# Altium schematic symbol library px4_SCHLIB.SchLib: 46 symbols
Pins are listed as number, name and electrical type; pins without a type are passive.

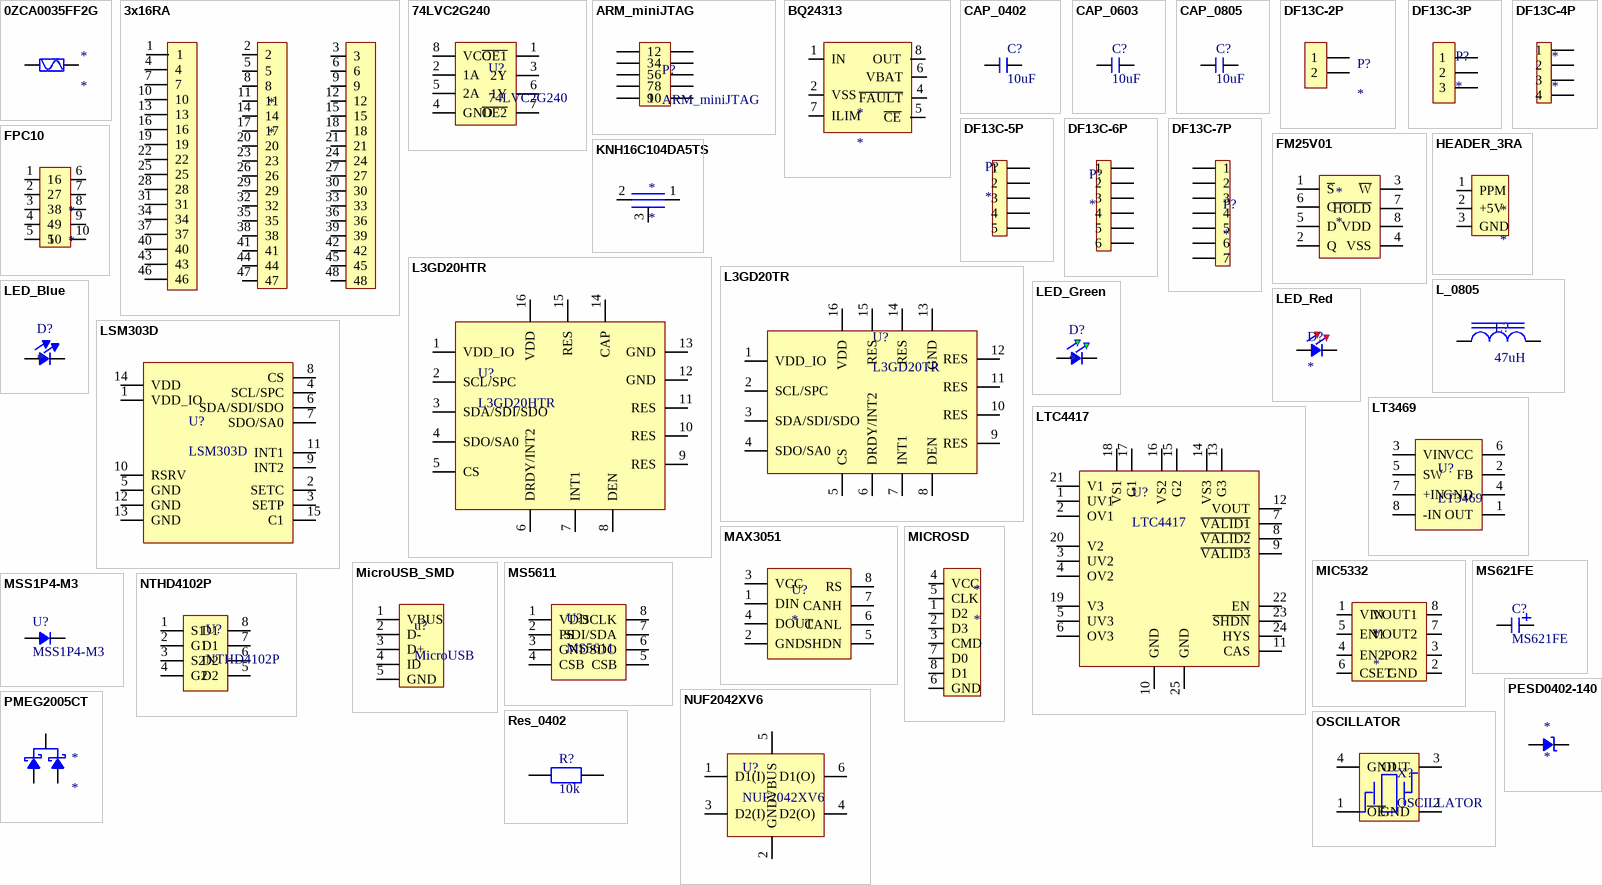
[diagram p0: symbols 0ZCA0035FF2G to Res_0402]

## 0ZCA0035FF2G
designator *
footprint PTC-1206
pins: 4, 5

## 3x16RA
designator *
footprint 3x16RA (脚间距2.54mm)
pins: 1, 2, 3, 4, 5, 6, 7, 8, 9, 10, 11, 12, 13, 14, 15, 16, 17, 18, 19, 20, 21, 22, 23, 24, 25, 26, 27, 28, 29, 30, 31, 32, 33, 34, 35, 36, 37, 38, 39, 40, 41, 42, 43, 44, 45, 46, 47, 48

## 74LVC2G240
designator U?
footprint TSSOP-8 (3.00×4.00×1.00 e=0.65mm（蒜米工坊）)
pins: 1 ~{OE1}, 2 1A, 3 2Y, 4 GND, 5 2A, 6 1Y, 7 ~{OE2}, 8 VCC

## ARM_miniJTAG
designator P?
footprint FTSH-105-01-XXX-DV-K
pins: 1, 2, 3, 4, 5, 6, 7, 8, 9, 10

## BQ24313
designator *
footprint QFN8 (2x2mm)
pins: 1 IN, 2 VSS, 4 ~{FAULT}, 5 ~{CE}, 6 VBAT, 7 ILIM, 8 OUT

## CAP_0402
designator C?, comment 10uF
footprint C 0402 (无极性贴片电容)
pins: 1, 2

## CAP_0603
designator C?, comment 10uF
footprint C 0603_L (无极性贴片电容)
pins: 1, 2

## CAP_0805
designator C?, comment 10uF
footprint C 0805_L (无极性贴片电容)
pins: 1, 2

## DF13C-2P
designator P?
footprint MX 1.25-LS-2P (长：7.25m，宽：3.7mm，高：4.7mm)
pins: 1, 2

## DF13C-3P
designator P?
footprint MX 1.25-LS-3P (长：8.5m，宽：3.7mm，高：4.7mm)
pins: 1, 2, 3

## DF13C-4P
designator *
footprint MX 1.25-LS-4P (长：9.75m，宽：3.7mm，高：4.7mm)
pins: 1, 2, 3, 4

## DF13C-5P
designator P?
footprint MX 1.25-LS-5P (长：11m，宽：3.7mm，高：4.7mm)
pins: 1, 2, 3, 4, 5

## DF13C-6P
designator P?
footprint MX 1.25-LS-6P (长：12.25m，宽：3.7mm，高：4.7mm)
pins: 1, 2, 3, 4, 5, 6

## DF13C-7P
designator P?
footprint MX 1.25-LS-7P (长：13.5m，宽：3.7mm，高：4.7mm)
pins: 1, 2, 3, 4, 5, 6, 7

## FM25V01
designator *
footprint SOIC8
pins: 1 ~{S}, 2 Q, 3 ~{W}, 4 VSS, 5 D, 6 C, 7 ~{HOLD}, 8 VDD

## FPC10
designator *
footprint FPC0.5 2H-WS-10P (长：9.2mm，宽：5.2mm，高：2mm)
pins: 1, 2, 3, 4, 5, 6, 7, 8, 9, 10

## HEADER_3RA
designator *
pins: 1 PPM, 2 +5V, 3 GND

## KNH16C104DA5TS
designator *
footprint KYOCERA-KNH16-DA
pins: 1, 2, 3

## L3GD20HTR
designator U?
footprint LGA_16L (3x3x1.0mm)
pins: 1 VDD_IO, 2 SCL/SPC, 3 SDA/SDI/SDO, 4 SDO/SA0, 5 CS, 6 DRDY/INT2, 7 INT1, 8 DEN, 9 RES, 10 RES, 11 RES, 12 GND, 13 GND, 14 CAP, 15 RES, 16 VDD

## L3GD20TR
designator U?
footprint LGA-16 (4x4x1mm)
pins: 1 VDD_IO, 2 SCL/SPC, 3 SDA/SDI/SDO, 4 SDO/SA0, 5 CS, 6 DRDY/INT2, 7 INT1, 8 DEN, 9 RES, 10 RES, 11 RES, 12 RES, 13 GND, 14 RES, 15 RES, 16 VDD

## L_0805
designator L?, comment 47uH
footprint L 0805 (小功率贴片电感)
pins: 1, 2

## LED_Blue
designator D?
footprint LED 0603B (蓝色0603LED)
pins: 3, 4

## LED_Green
designator D?
footprint LED 0603G (绿色0603LED)
pins: 3, 4

## LED_Red
designator D?
footprint LED 0603R (红色0603LED)
pins: 3, 4

## LSM303D
designator U?
footprint LGA_16L (3x3x1.0mm)
pins: 1 VDD_IO, 2 SETC, 3 SETP, 4 SCL/SPC, 5 GND, 6 SDA/SDI/SDO, 7 SDO/SA0, 8 CS, 9 INT2, 10 RSRV, 11 INT1, 12 GND, 13 GND, 14 VDD, 15 C1

## LT3469
designator U?
footprint SOT23-8
pins: 1 OUT, 2 FB, 3 VIN, 4 GND, 5 SW, 6 VCC, 7 +IN, 8 -IN

## LTC4417
designator U?
footprint MO-220
pins: 1 UV1, 2 OV1, 3 UV2, 4 OV2, 5 UV3, 6 OV3, 7 ~{VALID1}, 8 ~{VALID2}, 9 ~{VALID3}, 10 GND, 11 CAS, 12 VOUT, 13 G3, 14 VS3, 15 G2, 16 VS2, 17 G1, 18 VS1, 19 V3, 20 V2, 21 V1, 22 EN, 23 ~{SHDN}, 24 HYS, 25 GND

## MAX3051
designator U?
MAX3051
footprint SOT23-8
pins: 1 DIN, 2 GND, 3 VCC, 4 DOUT, 5 SHDN, 6 CANL, 7 CANH, 8 RS

## MIC5332
designator *
footprint QFN8 (2x2mm)
pins: 1 VIN, 2 GND, 3 POR2, 4 EN2, 5 EN1, 6 CSET, 7 VOUT2, 8 VOUT1

## MICROSD
designator *
footprint microSD
pins: 1 D2, 2 D3, 3 CMD, 4 VCC, 5 CLK, 6 GND, 7 D0, 8 D1

## MicroUSB_SMD
designator u?, comment MicroUSB
footprint USB-MICRO_E (micro型USB ，5.9*8.2*2.5mm)
pins: 1 VBUS, 2 D-, 3 D+, 4 ID, 5 GND

## MS621FE
designator C?
footprint MS621FE
pins: 1, 2

## MS5611
designator U?
footprint MS5611
pins: 1 VDD, 2 PS, 3 GND, 4 CSB, 5 CSB, 6 SDO, 7 SDI/SDA, 8 SCLK

## MSS1P4-M3
designator U?
footprint MicroSMP
pins: 1, 1

## NTHD4102P
designator U?
footprint 1206-8
pins: 1 S1, 2 G1, 3 S2, 4 G2, 5 D2, 6 D2, 7 D1, 8 D1

## NUF2042XV6
designator U?
footprint SOT563-6
pins: 1 D1(I), 2 GND, 3 D2(I), 4 D2(O), 5 VBUS, 6 D1(O)

## OSCILLATOR
designator X?
footprint OSC 3225-4P (3.2*2.5*0.7mm(长宽高))
pins: 1 ~{OE}, 2 GND, 3 OUT, 4 GND

## PESD0402-140
designator *
footprint 0402-TVS
pins: 1, 2

## PMEG2005CT
designator *
footprint SOT23
pins: 1, 2, 3

## Res_0402
designator R?, comment 10k
footprint 0402R
pins: 1, 2

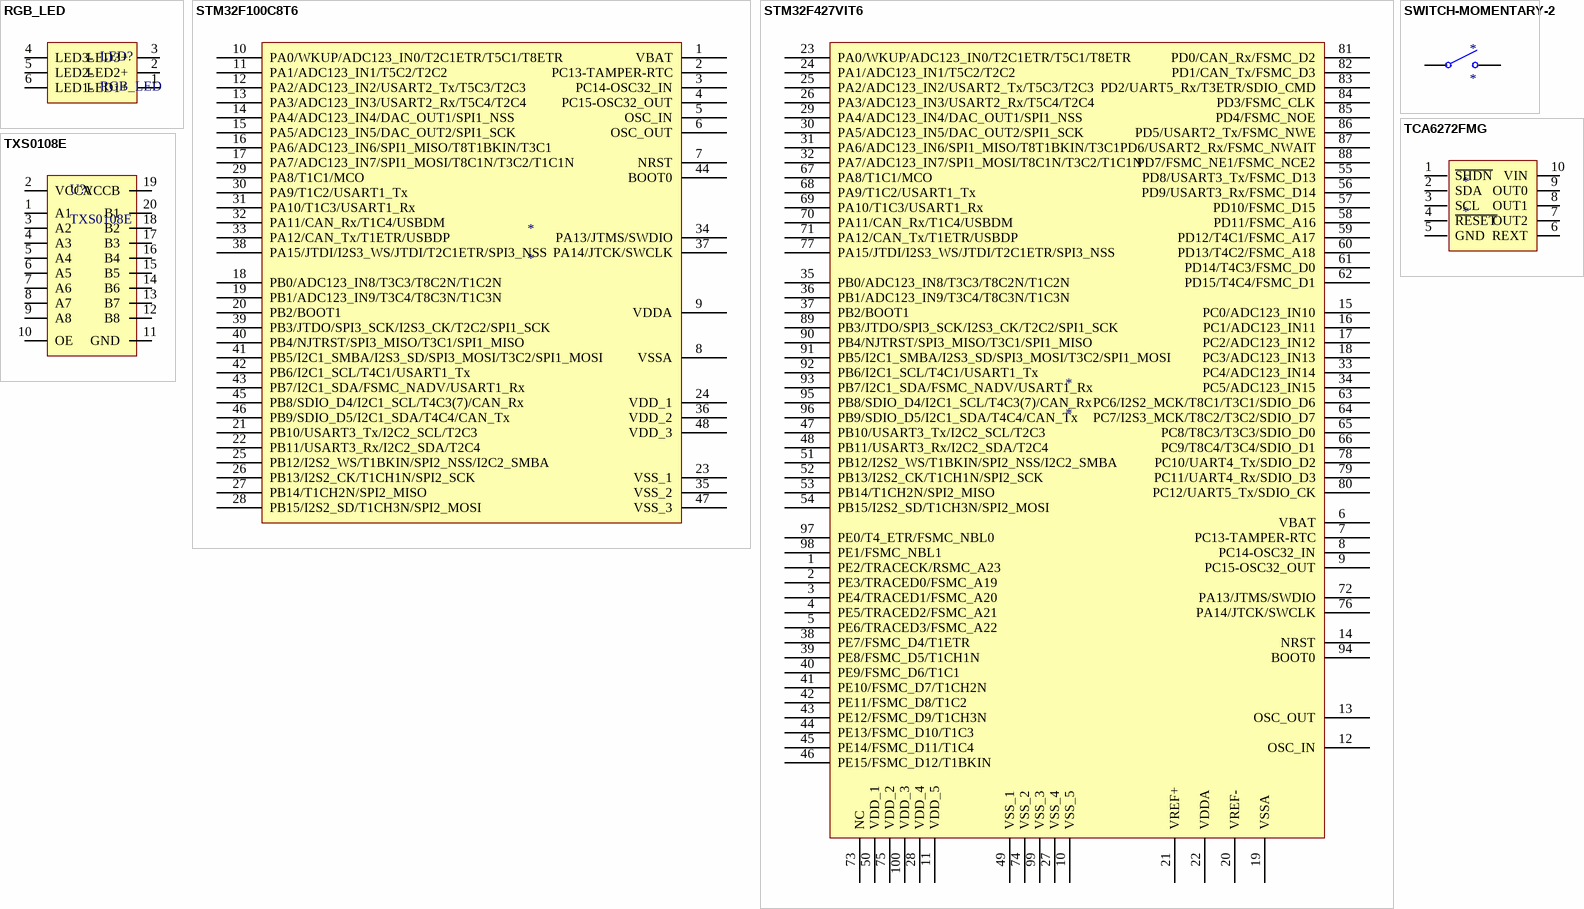
[diagram p1: symbols RGB_LED to TXS0108E]

## RGB_LED
designator LED?
footprint RGB_LED
pins: 1 LED1+, 2 LED2+, 3 LED3+, 4 LED3-, 5 LED2-, 6 LED1-

## STM32F100C8T6
designator *
footprint LQFP_48 (48-Leads, Body 7.00x7.00mm, Pitch 0.50mm)
pins: 1 VBAT, 2 PC13-TAMPER-RTC, 3 PC14-OSC32_IN, 4 PC15-OSC32_OUT, 5 OSC_IN, 6 OSC_OUT, 7 NRST, 8 VSSA, 9 VDDA, 10 PA0/WKUP/ADC123_IN0/T2C1ETR/T5C1/T8ETR, 11 PA1/ADC123_IN1/T5C2/T2C2, 12 PA2/ADC123_IN2/USART2_Tx/T5C3/T2C3, 13 PA3/ADC123_IN3/USART2_Rx/T5C4/T2C4, 14 PA4/ADC123_IN4/DAC_OUT1/SPI1_NSS, 15 PA5/ADC123_IN5/DAC_OUT2/SPI1_SCK, 16 PA6/ADC123_IN6/SPI1_MISO/T8T1BKIN/T3C1, 17 PA7/ADC123_IN7/SPI1_MOSI/T8C1N/T3C2/T1C1N, 18 PB0/ADC123_IN8/T3C3/T8C2N/T1C2N, 19 PB1/ADC123_IN9/T3C4/T8C3N/T1C3N, 20 PB2/BOOT1, 21 PB10/USART3_Tx/I2C2_SCL/T2C3, 22 PB11/USART3_Rx/I2C2_SDA/T2C4, 23 VSS_1, 24 VDD_1, 25 PB12/I2S2_WS/T1BKIN/SPI2_NSS/I2C2_SMBA, 26 PB13/I2S2_CK/T1CH1N/SPI2_SCK, 27 PB14/T1CH2N/SPI2_MISO, 28 PB15/I2S2_SD/T1CH3N/SPI2_MOSI, 29 PA8/T1C1/MCO, 30 PA9/T1C2/USART1_Tx, 31 PA10/T1C3/USART1_Rx, 32 PA11/CAN_Rx/T1C4/USBDM, 33 PA12/CAN_Tx/T1ETR/USBDP, 34 PA13/JTMS/SWDIO, 35 VSS_2, 36 VDD_2, 37 PA14/JTCK/SWCLK, 38 PA15/JTDI/I2S3_WS/JTDI/T2C1ETR/SPI3_NSS, 39 PB3/JTDO/SPI3_SCK/I2S3_CK/T2C2/SPI1_SCK, 40 PB4/NJTRST/SPI3_MISO/T3C1/SPI1_MISO, 41 PB5/I2C1_SMBA/I2S3_SD/SPI3_MOSI/T3C2/SPI1_MOSI, 42 PB6/I2C1_SCL/T4C1/USART1_Tx, 43 PB7/I2C1_SDA/FSMC_NADV/USART1_Rx, 44 BOOT0, 45 PB8/SDIO_D4/I2C1_SCL/T4C3(7)/CAN_Rx, 46 PB9/SDIO_D5/I2C1_SDA/T4C4/CAN_Tx, 47 VSS_3, 48 VDD_3

## STM32F427VIT6
designator *
footprint LQPF_100 (100-Leads, Body 14.00x14.00mm, Pitch 0.50mm)
pins: 1 PE2/TRACECK/RSMC_A23, 2 PE3/TRACED0/FSMC_A19, 3 PE4/TRACED1/FSMC_A20, 4 PE5/TRACED2/FSMC_A21, 5 PE6/TRACED3/FSMC_A22, 6 VBAT, 7 PC13-TAMPER-RTC, 8 PC14-OSC32_IN, 9 PC15-OSC32_OUT, 10 VSS_5, 11 VDD_5, 12 OSC_IN, 13 OSC_OUT, 14 NRST, 15 PC0/ADC123_IN10, 16 PC1/ADC123_IN11, 17 PC2/ADC123_IN12, 18 PC3/ADC123_IN13, 19 VSSA, 20 VREF-, 21 VREF+, 22 VDDA, 23 PA0/WKUP/ADC123_IN0/T2C1ETR/T5C1/T8ETR, 24 PA1/ADC123_IN1/T5C2/T2C2, 25 PA2/ADC123_IN2/USART2_Tx/T5C3/T2C3, 26 PA3/ADC123_IN3/USART2_Rx/T5C4/T2C4, 27 VSS_4, 28 VDD_4, 29 PA4/ADC123_IN4/DAC_OUT1/SPI1_NSS, 30 PA5/ADC123_IN5/DAC_OUT2/SPI1_SCK, 31 PA6/ADC123_IN6/SPI1_MISO/T8T1BKIN/T3C1, 32 PA7/ADC123_IN7/SPI1_MOSI/T8C1N/T3C2/T1C1N, 33 PC4/ADC123_IN14, 34 PC5/ADC123_IN15, 35 PB0/ADC123_IN8/T3C3/T8C2N/T1C2N, 36 PB1/ADC123_IN9/T3C4/T8C3N/T1C3N, 37 PB2/BOOT1, 38 PE7/FSMC_D4/T1ETR, 39 PE8/FSMC_D5/T1CH1N, 40 PE9/FSMC_D6/T1C1, 41 PE10/FSMC_D7/T1CH2N, 42 PE11/FSMC_D8/T1C2, 43 PE12/FSMC_D9/T1CH3N, 44 PE13/FSMC_D10/T1C3, 45 PE14/FSMC_D11/T1C4, 46 PE15/FSMC_D12/T1BKIN, 47 PB10/USART3_Tx/I2C2_SCL/T2C3, 48 PB11/USART3_Rx/I2C2_SDA/T2C4, 49 VSS_1, 50 VDD_1, 51 PB12/I2S2_WS/T1BKIN/SPI2_NSS/I2C2_SMBA, 52 PB13/I2S2_CK/T1CH1N/SPI2_SCK, 53 PB14/T1CH2N/SPI2_MISO, 54 PB15/I2S2_SD/T1CH3N/SPI2_MOSI, 55 PD8/USART3_Tx/FSMC_D13, 56 PD9/USART3_Rx/FSMC_D14, 57 PD10/FSMC_D15, 58 PD11/FSMC_A16, 59 PD12/T4C1/FSMC_A17, 60 PD13/T4C2/FSMC_A18, 61 PD14/T4C3/FSMC_D0, 62 PD15/T4C4/FSMC_D1, 63 PC6/I2S2_MCK/T8C1/T3C1/SDIO_D6, 64 PC7/I2S3_MCK/T8C2/T3C2/SDIO_D7, 65 PC8/T8C3/T3C3/SDIO_D0, 66 PC9/T8C4/T3C4/SDIO_D1, 67 PA8/T1C1/MCO, 68 PA9/T1C2/USART1_Tx, 69 PA10/T1C3/USART1_Rx, 70 PA11/CAN_Rx/T1C4/USBDM, 71 PA12/CAN_Tx/T1ETR/USBDP, 72 PA13/JTMS/SWDIO, 73 NC, 74 VSS_2, 75 VDD_2, 76 PA14/JTCK/SWCLK, 77 PA15/JTDI/I2S3_WS/JTDI/T2C1ETR/SPI3_NSS, 78 PC10/UART4_Tx/SDIO_D2, 79 PC11/UART4_Rx/SDIO_D3, 80 PC12/UART5_Tx/SDIO_CK, 81 PD0/CAN_Rx/FSMC_D2, 82 PD1/CAN_Tx/FSMC_D3, 83 PD2/UART5_Rx/T3ETR/SDIO_CMD, 84 PD3/FSMC_CLK, 85 PD4/FSMC_NOE, 86 PD5/USART2_Tx/FSMC_NWE, 87 PD6/USART2_Rx/FSMC_NWAIT, 88 PD7/FSMC_NE1/FSMC_NCE2, 89 PB3/JTDO/SPI3_SCK/I2S3_CK/T2C2/SPI1_SCK, 90 PB4/NJTRST/SPI3_MISO/T3C1/SPI1_MISO, 91 PB5/I2C1_SMBA/I2S3_SD/SPI3_MOSI/T3C2/SPI1_MOSI, 92 PB6/I2C1_SCL/T4C1/USART1_Tx, 93 PB7/I2C1_SDA/FSMC_NADV/USART1_Rx, 94 BOOT0, 95 PB8/SDIO_D4/I2C1_SCL/T4C3(7)/CAN_Rx, 96 PB9/SDIO_D5/I2C1_SDA/T4C4/CAN_Tx, 97 PE0/T4_ETR/FSMC_NBL0, 98 PE1/FSMC_NBL1, 99 VSS_3, 100 VDD_3

## SWITCH-MOMENTARY-2
designator *
footprint EVQP7J01K
pins: 1, 2

## TCA6272FMG
designator *
footprint SON10
pins: 1 ~{SHDN}, 2 SDA, 3 SCL, 4 ~{RESET}, 5 GND, 6 REXT, 7 OUT2, 8 OUT1, 9 OUT0, 10 VIN

## TXS0108E
designator U?
footprint PQFN50P450X350X100_HS-21N (PQFN, 20-Leads, Body 4.50x3.50mm, Pitch 0.50mm/1.50mm, Thermal Pad 3.74x1.74mm, IPC Medium Density)
pins: 1 A1, 2 VCCA, 3 A2, 4 A3, 5 A4, 6 A5, 7 A6, 8 A7, 9 A8, 10 OE, 11 GND, 12 B8, 13 B7, 14 B6, 15 B5, 16 B4, 17 B3, 18 B2, 19 VCCB, 20 B1